# Altium footprint library 常用元件封装.PCBLIB: 163 footprints (part 9 of 11)
Each footprint in its own frame and in the unit in brackets; x right, y up, seen from the top. Pads: shape width x height; smd on the part's side, far side on the other; paste and mask are expansions set on the pad; w line width, h text height; cw(c..) or ccw(c..) is an arc to the next point about the centre after c.
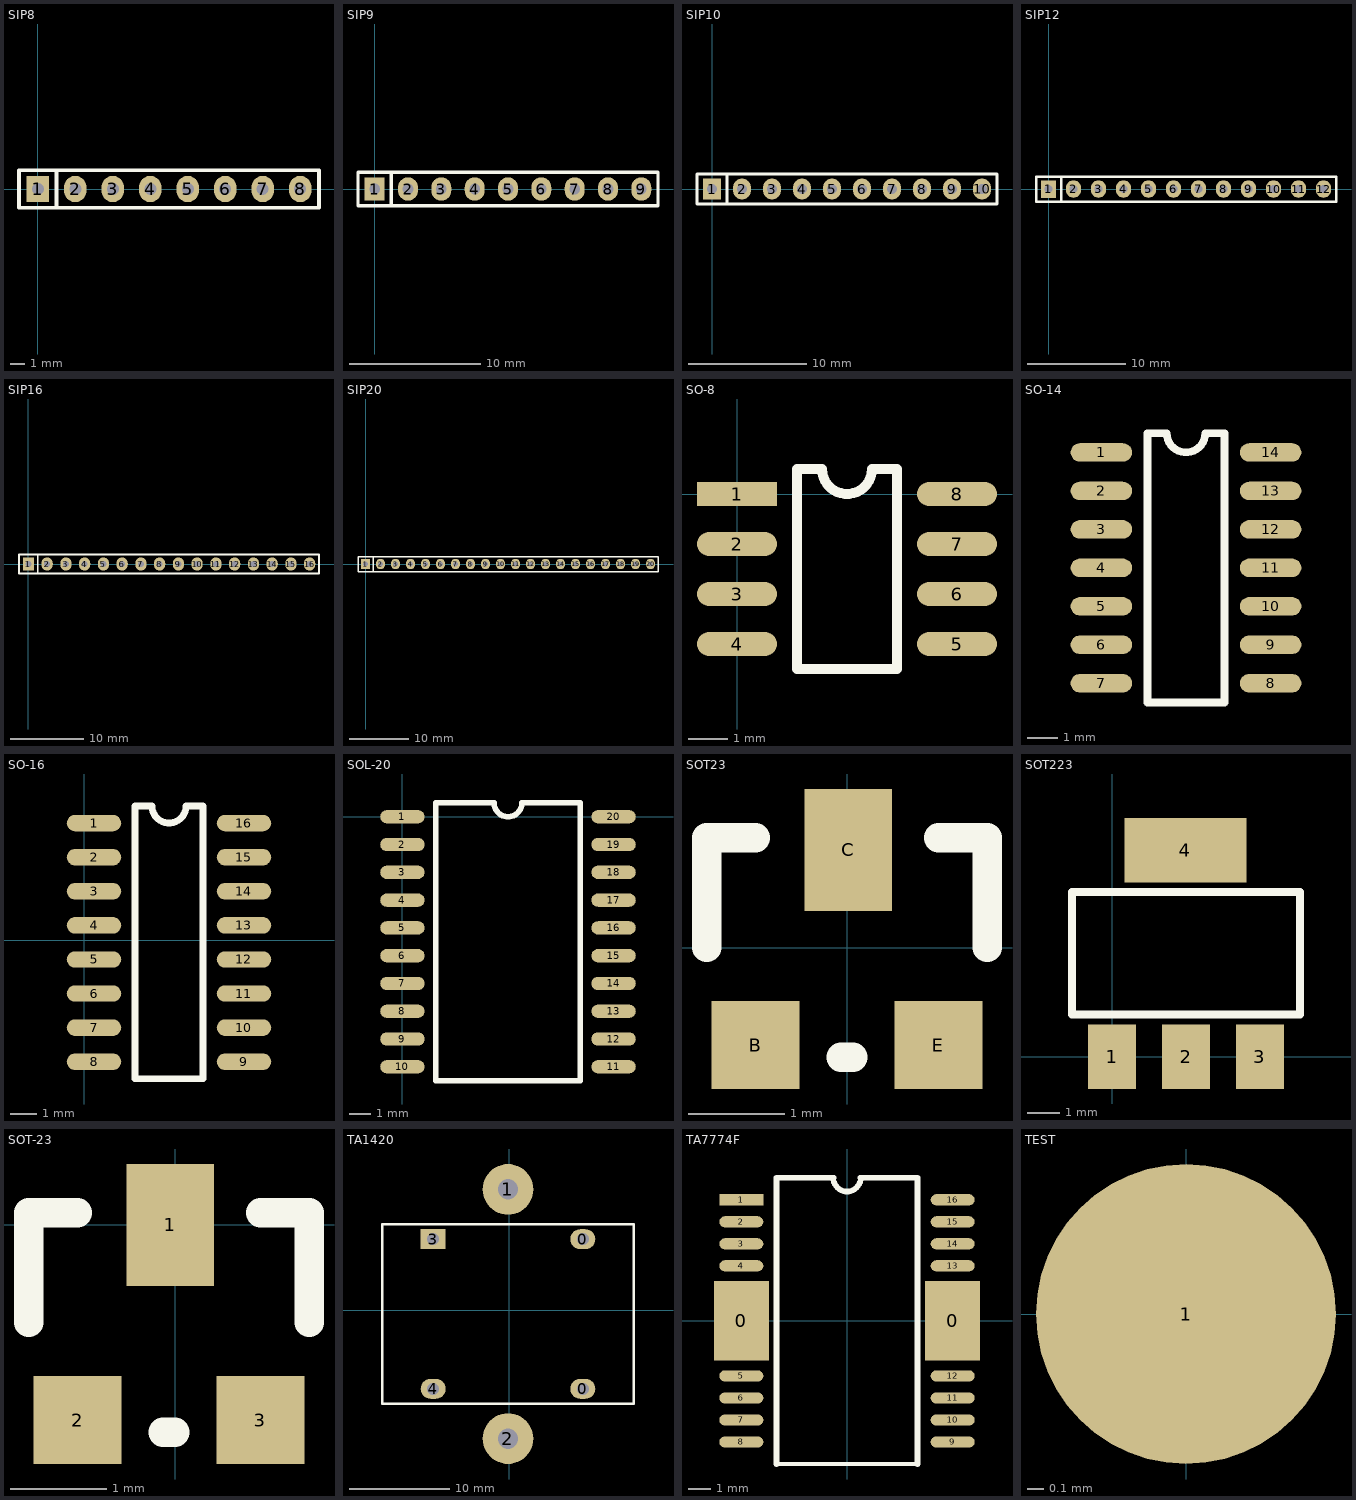
[diagram p8: the footprints below, top view; thin cyan lines are the x and y axes]

## SIP8 [mil]
pads (8):
  rect 60x70 hole 32: 1(0,0)
  oval 60x70 hole 32: 2(100,0) 3(200,0) 4(300,0) 5(400,0) 6(500,0) 7(600,0) 8(700,0)
TopOverlay:
  lines w10: 50,-50 50,50 ; -50,-50 -50,50 750,50 750,-50 -50,-50

## SIP9 [mil]
pads (9):
  rect 60x70 hole 32: 1(0,0)
  oval 60x70 hole 32: 2(100,0) 3(200,0) 4(300,0) 5(400,0) 6(500,0) 7(600,0) 8(700,0) 9(800,0)
TopOverlay:
  lines w10: 50,-50 50,50 ; -50,-50 -50,50 850,50 850,-50 -50,-50

## SIP10 [mil]
pads (10):
  rect 60x70 hole 32: 1(0,0)
  oval 60x70 hole 32: 2(100,0) 3(200,0) 4(300,0) 5(400,0) 6(500,0) 7(600,0) 8(700,0) 9(800,0) 10(900,0)
TopOverlay:
  lines w10: 50,-50 50,50 ; -50,-50 950,-50 950,50 -50,50 -50,-50

## SIP12 [mil]
pads (12):
  rect 60x70 hole 32: 1(0,0)
  oval 60x70 hole 32: 2(100,0) 3(200,0) 4(300,0) 5(400,0) 6(500,0) 7(600,0) 8(700,0) 9(800,0) 10(900,0) 11(1000,0) 12(1100,0)
TopOverlay:
  lines w10: 50,-50 50,50 ; -50,-50 1150,-50 1150,50 -50,50 -50,-50

## SIP16 [mil]
pads (16):
  rect 60x70 hole 32: 1(0,0)
  oval 60x70 hole 32: 2(100,0) 3(200,0) 4(300,0) 5(400,0) 6(500,0) 7(600,0) 8(700,0) 9(800,0) 10(900,0) 11(1000,0) 12(1100,0) 13(1200,0) 14(1300,0) 15(1400,0) 16(1500,0)
TopOverlay:
  lines w10: 50,-50 50,50 ; -50,-50 1550,-50 1550,50 -50,50 -50,-50

## SIP20 [mil]
pads (20):
  rect 60x70 hole 32: 1(0,0)
  oval 60x70 hole 32: 2(100,0) 3(200,0) 4(300,0) 5(400,0) 6(500,0) 7(600,0) 8(700,0) 9(800,0) 10(900,0) 11(1000,0) 12(1100,0) 13(1200,0) 14(1300,0) 15(1400,0) 16(1500,0) 17(1600,0) 18(1700,0) 19(1800,0) 20(1900,0)
TopOverlay:
  lines w10: 50,-50 50,50 ; -50,-50 -50,50 1950,50 1950,-50 -50,-50

## SO-8 [mil]
pads (8):
  rect 80x24 smd: 1(0,0)
  oval 80x24 smd: 2(0,-50) 3(0,-100) 4(0,-150) 5(220,-150) 6(220,-100) 7(220,-50) 8(220,0)
TopOverlay:
  lines w10: 60,-175 60,25 85,25 ccw(c110,25) 135,25 160,25 160,-175 60,-175

## SO-14 [mil]
pads (14):
  oval 80x24 smd: 1(142,-76) 2(142,-126) 3(142,-176) 4(142,-226) 5(142,-276) 6(142,-326) 7(142,-376) 8(362,-376) 9(362,-326) 10(362,-276) 11(362,-226) 12(362,-176) 13(362,-126) 14(362,-76)
TopOverlay:
  lines w10: 202,-401 302,-401 302,-51 277,-51 cw(c252,-51) 227,-51 202,-51 202,-401

## SO-16 [mil]
pads (16):
  oval 80x24 smd: 1(14,172) 2(14,122) 3(14,72) 4(14,22) 5(14,-28) 6(14,-78) 7(14,-128) 8(14,-178) 9(234,-178) 10(234,-128) 11(234,-78) 12(234,-28) 13(234,22) 14(234,72) 15(234,122) 16(234,172)
TopOverlay:
  lines w10: 74,-203 174,-203 174,197 149,197 cw(c124,197) 99,197 74,197 74,-203

## SOL-20 [mil]
pads (20):
  oval 80x24 smd: 1(0,0) 2(0,-50) 3(0,-100) 4(0,-150) 5(0,-200) 6(0,-250) 7(0,-300) 8(0,-350) 9(0,-400) 10(0,-450) 11(380,-450) 12(380,-400) 13(380,-350) 14(380,-300) 15(380,-250) 16(380,-200) 17(380,-150) 18(380,-100) 19(380,-50) 20(380,0)
TopOverlay:
  lines w10: 60,-475 320,-475 320,25 215,25 cw(c190,25) 165,25 60,25 60,-475

## SOT23 [mil]
pads (3):
  rect 36x36 smd: B(-37.5,-40) E(37.5,-40)
  rect 36x50 smd: C(0.5,40)
TopOverlay:
  lines w12: -57.5,0 -57.5,45 -37.5,45 ; -2.5,-45 2.5,-45 ; 37.5,45 57.5,45 57.5,0

## SOT223 [mil]
pads (4):
  rect 59x79 smd: 1(0,0) 2(90.55,0) 3(181.1,0)
  rect 150x79 smd: 4(89.88,253.54)
TopOverlay:
  lines w10: -49.45,52 230.55,52 230.55,202 -49.45,202 -49.45,52

## SOT-23 [mil]
pads (3):
  rect 36x50 smd: 1(-2,0)
  rect 36x36 smd: 2(-40,-80) 3(35,-80)
TopOverlay:
  lines w12: -60,-40 -60,5 -40,5 ; -5,-85 0,-85 ; 35,5 55,5 55,-40

## TA1420 [mm]
pads (6):
  oval 2.5x2 hole 1.2: 0(7.38,-7.888) 0(7.38,7.112) 4(-7.62,-7.888)
  round 5.08 hole 2.032: 1(-0.12,12.112) 2(-0.12,-12.888)
  rect 2.5x2 hole 1.2: 3(-7.62,7.112)
TopOverlay:
  lines w0.254: -1.92,8.612 12.48,8.612 12.48,-9.388 -12.72,-9.388 -12.72,8.612 -0.22,8.612

## TA7774F [mm]
pads (18):
  rect 2.5x3.6 smd: 0(-4.8,0) 0(4.8,0)
  rect 2x0.508 smd: 1(-4.8,5.5)
  oval 2x0.508 smd: 2(-4.8,4.5) 3(-4.8,3.5) 4(-4.8,2.5) 5(-4.8,-2.5) 6(-4.8,-3.5) 7(-4.8,-4.5) 8(-4.8,-5.5) 9(4.8,-5.5) 10(4.8,-4.5) 11(4.8,-3.5) 12(4.8,-2.5) 13(4.8,2.5) 14(4.8,3.5) 15(4.8,4.5) 16(4.8,5.5)
TopOverlay:
  lines w0.2: -3.2,-6.5 3.2,-6.5
  lines w0.254: -3.2,-6.5 -3.2,6.5 -0.6,6.5 ; -0.625,6.5 ccw(c0,6.5) 0.625,6.5 ; 0.6,6.5 3.2,6.5 3.2,-6.5

## TEST [mil]
pads (1):
  round 70 smd: 1(0,0)